# EAGLE library part TM4C1232H6-64LQFP (library Explore-Labs-EAGLE-Library)
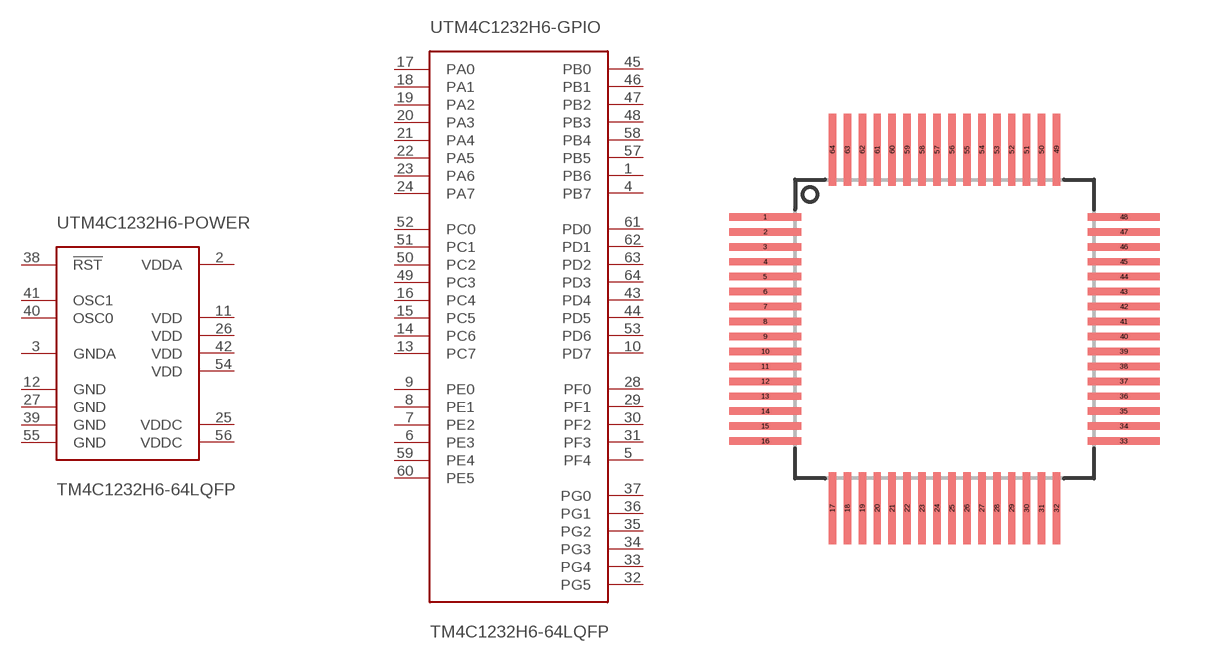
[diagram p10: symbol with the pads of TM4C123-64LQFP; footprint TM4C123-64LQFP]

Designator prefix -; gates TM4C1232H6-GPIO=TM4C1232H6-GPIO TM4C1232H6-POWER=TM4C1232H6-POWER

## TM4C1232H6-64LQFP  [TM4C123-64LQFP]
1  TM4C1232H6-GPIO:PB6
2  TM4C1232H6-POWER:VDDA  pwr
3  TM4C1232H6-POWER:GNDA  pwr
4  TM4C1232H6-GPIO:PB7
5  TM4C1232H6-GPIO:PF4
6  TM4C1232H6-GPIO:PE3
7  TM4C1232H6-GPIO:PE2
8  TM4C1232H6-GPIO:PE1
9  TM4C1232H6-GPIO:PE0
10  TM4C1232H6-GPIO:PD7
11  TM4C1232H6-POWER:VDD  pwr
12  TM4C1232H6-POWER:GND  pwr
13  TM4C1232H6-GPIO:PC7
14  TM4C1232H6-GPIO:PC6
15  TM4C1232H6-GPIO:PC5
16  TM4C1232H6-GPIO:PC4
17  TM4C1232H6-GPIO:PA0
18  TM4C1232H6-GPIO:PA1
19  TM4C1232H6-GPIO:PA2
20  TM4C1232H6-GPIO:PA3
21  TM4C1232H6-GPIO:PA4
22  TM4C1232H6-GPIO:PA5
23  TM4C1232H6-GPIO:PA6
24  TM4C1232H6-GPIO:PA7
25  TM4C1232H6-POWER:VDDC  pwr
26  TM4C1232H6-POWER:VDD  pwr
27  TM4C1232H6-POWER:GND  pwr
28  TM4C1232H6-GPIO:PF0
29  TM4C1232H6-GPIO:PF1
30  TM4C1232H6-GPIO:PF2
31  TM4C1232H6-GPIO:PF3
32  TM4C1232H6-GPIO:PG5
33  TM4C1232H6-GPIO:PG4
34  TM4C1232H6-GPIO:PG3
35  TM4C1232H6-GPIO:PG2
36  TM4C1232H6-GPIO:PG1
37  TM4C1232H6-GPIO:PG0
38  TM4C1232H6-POWER:!RST  in
39  TM4C1232H6-POWER:GND  pwr
40  TM4C1232H6-POWER:OSC0  in
41  TM4C1232H6-POWER:OSC1  out
42  TM4C1232H6-POWER:VDD  pwr
43  TM4C1232H6-GPIO:PD4
44  TM4C1232H6-GPIO:PD5
45  TM4C1232H6-GPIO:PB0
46  TM4C1232H6-GPIO:PB1
47  TM4C1232H6-GPIO:PB2
48  TM4C1232H6-GPIO:PB3
49  TM4C1232H6-GPIO:PC3
50  TM4C1232H6-GPIO:PC2
51  TM4C1232H6-GPIO:PC1
52  TM4C1232H6-GPIO:PC0
53  TM4C1232H6-GPIO:PD6
54  TM4C1232H6-POWER:VDD  pwr
55  TM4C1232H6-POWER:GND  pwr
56  TM4C1232H6-POWER:VDDC  pwr
57  TM4C1232H6-GPIO:PB5
58  TM4C1232H6-GPIO:PB4
59  TM4C1232H6-GPIO:PE4
60  TM4C1232H6-GPIO:PE5
61  TM4C1232H6-GPIO:PD0
62  TM4C1232H6-GPIO:PD1
63  TM4C1232H6-GPIO:PD2
64  TM4C1232H6-GPIO:PD3

## Footprint TM4C123-64LQFP (pad centres in mm)
smd 2.4 x 0.25: 1 -6,3.75; 2 -6,3.25; 3 -6,2.75; 4 -6,2.25; 5 -6,1.75; 6 -6,1.25; 7 -6,0.75; 8 -6,0.25; 9 -6,-0.25; 10 -6,-0.75; 11 -6,-1.25; 12 -6,-1.75; 13 -6,-2.25; 14 -6,-2.75; 15 -6,-3.25; 16 -6,-3.75; 33 6,-3.75; 34 6,-3.25; 35 6,-2.75; 36 6,-2.25; 37 6,-1.75; 38 6,-1.25; 39 6,-0.75; 40 6,-0.25; 41 6,0.25; 42 6,0.75; 43 6,1.25; 44 6,1.75; 45 6,2.25; 46 6,2.75; 47 6,3.25; 48 6,3.75
smd 0.25 x 2.4: 17 -3.75,-6; 18 -3.25,-6; 19 -2.75,-6; 20 -2.25,-6; 21 -1.75,-6; 22 -1.25,-6; 23 -0.75,-6; 24 -0.25,-6; 25 0.25,-6; 26 0.75,-6; 27 1.25,-6; 28 1.75,-6; 29 2.25,-6; 30 2.75,-6; 31 3.25,-6; 32 3.75,-6; 49 3.75,6; 50 3.25,6; 51 2.75,6; 52 2.25,6; 53 1.75,6; 54 1.25,6; 55 0.75,6; 56 0.25,6; 57 -0.25,6; 58 -0.75,6; 59 -1.25,6; 60 -1.75,6; 61 -2.25,6; 62 -2.75,6; 63 -3.25,6; 64 -3.75,6